# Altium footprint library SI5332AD11697-GM1.PcbLib: 3 footprints
Each footprint in its own frame and in the unit in brackets; x right, y up, seen from the top. Pads: shape width x height; smd on the part's side, far side on the other; paste and mask are expansions set on the pad; w line width, h text height; cw(c..) or ccw(c..) is an arc to the next point about the centre after c.
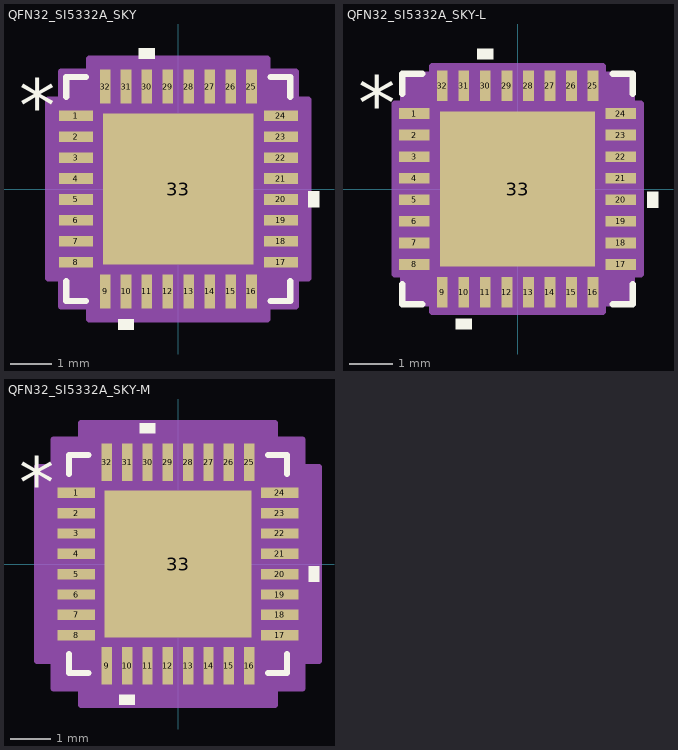
[diagram p0: the footprints below, top view; thin cyan lines are the x and y axes]

## QFN32_SI5332A_SKY [mil]
pads (33):
  rect 32x10 smd paste+0 mask+0: 1(-96.5,68.92) 2(-96.5,49.23) 3(-96.5,29.54) 4(-96.5,9.85) 5(-96.5,-9.85) 6(-96.5,-29.54) 7(-96.5,-49.23) 8(-96.5,-68.92) 17(96.5,-68.92) 18(96.5,-49.23) 19(96.5,-29.54) 20(96.5,-9.85) 21(96.5,9.85) 22(96.5,29.54) 23(96.5,49.23) 24(96.5,68.92)
  rect 10x32 smd paste+0 mask+0: 9(-68.92,-96.5) 10(-49.23,-96.5) 11(-29.54,-96.5) 12(-9.85,-96.5) 13(9.85,-96.5) 14(29.54,-96.5) 15(49.23,-96.5) 16(68.92,-96.5) 25(68.92,96.5) 26(49.23,96.5) 27(29.54,96.5) 28(9.85,96.5) 29(-9.85,96.5) 30(-29.54,96.5) 31(-49.23,96.5) 32(-68.92,96.5)
  rect 142x142 smd paste-70.5 mask+0: 33(0,0)
Top Overlay:
  region: -41.73,-122.5 -56.73,-122.5 -56.73,-132.5 -41.73,-132.5
  region: 122.5,-2.35 132.5,-2.35 132.5,-17.34 122.5,-17.34
  region: -22.04,122.5 -37.03,122.5 -37.03,132.5 -22.04,132.5
  lines w6: -105.5,-87.02 -105.5,-105.5 -87.02,-105.5 ; -105.5,87.02 -105.5,105.5 -87.02,105.5 ; 87.02,-105.5 105.5,-105.5 105.5,-87.02 ; 87.02,105.5 105.5,105.5 105.5,87.02
  text "*" at -150,53.76 h50
Top Paste:
  region: -3.94,67.06 -67.06,67.06 -67.06,3.94 -3.94,3.94
  region: -3.94,-3.94 -67.06,-3.94 -67.06,-67.06 -3.94,-67.06
  region: 67.06,67.06 3.94,67.06 3.94,3.94 67.06,3.94
  region: 67.06,-3.94 3.94,-3.94 3.94,-67.06 67.06,-67.06
Mechanical 13:
  lines w1: -100.5,50.5 -50.5,100.5 ; -100.5,-100.5 100.5,-100.5 ; -100.5,-100.5 -100.5,100.5 ; -100.5,-100.5 -100.5,-100.5 ; -100.5,-74.92 -100.5,-62.91 ; -100.5,-74.92 -100.5,-62.91 ; -100.5,-74.92 -100.5,-74.92 ; -100.5,-62.91 -100.5,-62.91 ; -100.5,-55.23 -100.5,-43.23 ; -100.5,-55.23 -100.5,-43.23 ; -100.5,-55.23 -100.5,-55.23 ; -100.5,-43.23 -100.5,-43.23 ; -100.5,-35.53 -100.5,-23.54 ; -100.5,-35.53 -100.5,-23.54 ; -100.5,-35.53 -100.5,-35.53 ; -100.5,-23.54 -100.5,-23.54 ; -100.5,-15.85 -100.5,-3.85 ; -100.5,-15.85 -100.5,-3.85 ; -100.5,-15.85 -100.5,-15.85 ; -100.5,-3.85 -100.5,-3.85 ; -100.5,3.85 -100.5,15.85 ; -100.5,3.85 -100.5,15.85 ; -100.5,3.85 -100.5,3.85 ; -100.5,15.85 -100.5,15.85 ; -100.5,23.54 -100.5,35.53 ; -100.5,23.54 -100.5,35.53 ; -100.5,23.54 -100.5,23.54 ; -100.5,35.53 -100.5,35.53 ; -100.5,43.23 -100.5,55.23 ; -100.5,43.23 -100.5,55.23 ; -100.5,43.23 -100.5,43.23 ; -100.5,55.23 -100.5,55.23 ; -100.5,62.91 -100.5,74.92 ; -100.5,62.91 -100.5,74.92 ; -100.5,62.91 -100.5,62.91 ; -100.5,74.92 -100.5,74.92 ; -100.5,100.5 100.5,100.5 ; -100.5,100.5 -100.5,100.5 ; -74.92,-100.5 -62.91,-100.5 ; -74.92,-100.5 -74.92,-100.5 ; -74.92,-100.5 -62.91,-100.5 ; -74.92,100.5 -62.91,100.5 ; -74.92,100.5 -62.91,100.5 ; -74.92,100.5 -74.92,100.5 ; -62.91,-100.5 -62.91,-100.5 ; -62.91,100.5 -62.91,100.5 ; -55.23,-100.5 -43.23,-100.5 ; -55.23,-100.5 -55.23,-100.5 ; -55.23,-100.5 -43.23,-100.5 ; -55.23,100.5 -43.23,100.5 ; -55.23,100.5 -43.23,100.5 ; -55.23,100.5 -55.23,100.5 ; -43.23,-100.5 -43.23,-100.5 ; -43.23,100.5 -43.23,100.5 ; -35.53,-100.5 -23.54,-100.5 ; -35.53,-100.5 -35.53,-100.5 ; -35.53,-100.5 -23.54,-100.5 ; -35.53,100.5 -23.54,100.5 ; -35.53,100.5 -23.54,100.5 ; -35.53,100.5 -35.53,100.5 ; -23.54,-100.5 -23.54,-100.5 ; -23.54,100.5 -23.54,100.5 ; -15.85,-100.5 -3.85,-100.5 ; -15.85,-100.5 -15.85,-100.5 ; -15.85,-100.5 -3.85,-100.5 ; -15.85,100.5 -3.85,100.5 ; -15.85,100.5 -3.85,100.5 ; -15.85,100.5 -15.85,100.5 ; -3.85,-100.5 -3.85,-100.5 ; -3.85,100.5 -3.85,100.5 ; 3.85,-100.5 15.85,-100.5 ; 3.85,-100.5 3.85,-100.5 ; 3.85,-100.5 15.85,-100.5 ; 3.85,100.5 15.85,100.5 ; 3.85,100.5 15.85,100.5 ; 3.85,100.5 3.85,100.5 ; 15.85,-100.5 15.85,-100.5 ; 15.85,100.5 15.85,100.5 ; 23.54,-100.5 35.53,-100.5 ; 23.54,-100.5 23.54,-100.5 ; 23.54,-100.5 35.53,-100.5 ; 23.54,100.5 35.53,100.5 ; 23.54,100.5 35.53,100.5 ; 23.54,100.5 23.54,100.5 ; 35.53,-100.5 35.53,-100.5 ; 35.53,100.5 35.53,100.5 ; 43.23,-100.5 55.23,-100.5 ; 43.23,-100.5 43.23,-100.5 ; 43.23,-100.5 55.23,-100.5 ; 43.23,100.5 55.23,100.5 ; 43.23,100.5 55.23,100.5 ; 43.23,100.5 43.23,100.5 ; 55.23,-100.5 55.23,-100.5 ; 55.23,100.5 55.23,100.5 ; 62.91,-100.5 74.92,-100.5 ; 62.91,-100.5 62.91,-100.5 ; 62.91,-100.5 74.92,-100.5 ; 62.91,100.5 74.92,100.5 ; 62.91,100.5 74.92,100.5 ; 62.91,100.5 62.91,100.5 ; 74.92,-100.5 74.92,-100.5 ; 74.92,100.5 74.92,100.5 ; 100.5,-100.5 100.5,-100.5 ; 100.5,-100.5 100.5,100.5 ; 100.5,-74.92 100.5,-62.91 ; 100.5,-74.92 100.5,-74.92 ; 100.5,-74.92 100.5,-62.91 ; 100.5,-62.91 100.5,-62.91 ; 100.5,-55.23 100.5,-43.23 ; 100.5,-55.23 100.5,-55.23 ; 100.5,-55.23 100.5,-43.23 ; 100.5,-43.23 100.5,-43.23 ; 100.5,-35.53 100.5,-23.54 ; 100.5,-35.53 100.5,-35.53 ; 100.5,-35.53 100.5,-23.54 ; 100.5,-23.54 100.5,-23.54 ; 100.5,-15.85 100.5,-3.85 ; 100.5,-15.85 100.5,-15.85 ; 100.5,-15.85 100.5,-3.85 ; 100.5,-3.85 100.5,-3.85 ; 100.5,3.85 100.5,15.85 ; 100.5,3.85 100.5,3.85 ; 100.5,3.85 100.5,15.85 ; 100.5,15.85 100.5,15.85 ; 100.5,23.54 100.5,35.53 ; 100.5,23.54 100.5,23.54 ; 100.5,23.54 100.5,35.53 ; 100.5,35.53 100.5,35.53 ; 100.5,43.23 100.5,55.23 ; 100.5,43.23 100.5,43.23 ; 100.5,43.23 100.5,55.23 ; 100.5,55.23 100.5,55.23 ; 100.5,62.91 100.5,74.92 ; 100.5,62.91 100.5,62.91 ; 100.5,62.91 100.5,74.92 ; 100.5,74.92 100.5,74.92 ; 100.5,100.5 100.5,100.5
  text "*" at -93,53.76 h50
Mechanical 15:
  region: -83.92,-110.5 -110.5,-110.5 -110.5,-83.92 -122.5,-83.92 -122.5,83.92 -110.5,83.92 -110.5,110.5 -83.92,110.5 -83.92,122.5 83.92,122.5 83.92,110.5 110.5,110.5 110.5,83.92 122.5,83.92 122.5,-83.92 110.5,-83.92 110.5,-110.5 83.92,-110.5 83.92,-122.5 -83.92,-122.5
  lines w6: -122.5,-83.92 -110.5,-83.92 -110.5,-110.5 -83.92,-110.5 -83.92,-122.5 83.92,-122.5 83.92,-110.5 110.5,-110.5 110.5,-83.92 122.5,-83.92 122.5,83.92 110.5,83.92 110.5,110.5 83.92,110.5 83.92,122.5 -83.92,122.5 -83.92,110.5 -110.5,110.5 -110.5,83.92 -122.5,83.92 -122.5,-83.92
3D body "QFN32_SI5332A_SKY.step": height 37.09, standoff 0, extent -100.51,-100.51 100.51,100.51

## QFN32_SI5332A_SKY-L [mil]
pads (33):
  rect 28x10 smd paste+0 mask+0: 1(-94.5,68.92) 2(-94.5,49.23) 3(-94.5,29.54) 4(-94.5,9.85) 5(-94.5,-9.85) 6(-94.5,-29.54) 7(-94.5,-49.23) 8(-94.5,-68.92) 17(94.5,-68.92) 18(94.5,-49.23) 19(94.5,-29.54) 20(94.5,-9.85) 21(94.5,9.85) 22(94.5,29.54) 23(94.5,49.23) 24(94.5,68.92)
  rect 10x28 smd paste+0 mask+0: 9(-68.92,-94.5) 10(-49.23,-94.5) 11(-29.54,-94.5) 12(-9.85,-94.5) 13(9.85,-94.5) 14(29.54,-94.5) 15(49.23,-94.5) 16(68.92,-94.5) 25(68.92,94.5) 26(49.23,94.5) 27(29.54,94.5) 28(9.85,94.5) 29(-9.85,94.5) 30(-29.54,94.5) 31(-49.23,94.5) 32(-68.92,94.5)
  rect 142x142 smd paste-70.5 mask+0: 33(0,0)
Top Overlay:
  region: -41.73,-118.5 -56.73,-118.5 -56.73,-128.5 -41.73,-128.5
  region: 118.5,-2.35 128.5,-2.35 128.5,-17.34 118.5,-17.34
  region: -22.04,118.5 -37.03,118.5 -37.03,128.5 -22.04,128.5
  lines w6: -105.5,-87.02 -105.5,-105.5 -87.02,-105.5 ; -105.5,87.02 -105.5,105.5 -87.02,105.5 ; 87.02,-105.5 105.5,-105.5 105.5,-87.02 ; 87.02,105.5 105.5,105.5 105.5,87.02
  text "*" at -146,53.76 h50
Top Paste:
  region: -3.94,67.06 -67.06,67.06 -67.06,3.94 -3.94,3.94
  region: -3.94,-3.94 -67.06,-3.94 -67.06,-67.06 -3.94,-67.06
  region: 67.06,67.06 3.94,67.06 3.94,3.94 67.06,3.94
  region: 67.06,-3.94 3.94,-3.94 3.94,-67.06 67.06,-67.06
Mechanical 13:
  lines w1: -100.5,50.5 -50.5,100.5 ; -100.5,-100.5 100.5,-100.5 ; -100.5,-100.5 -100.5,100.5 ; -100.5,-100.5 -100.5,-100.5 ; -100.5,-74.92 -100.5,-62.91 ; -100.5,-74.92 -100.5,-62.91 ; -100.5,-74.92 -100.5,-74.92 ; -100.5,-62.91 -100.5,-62.91 ; -100.5,-55.23 -100.5,-43.23 ; -100.5,-55.23 -100.5,-43.23 ; -100.5,-55.23 -100.5,-55.23 ; -100.5,-43.23 -100.5,-43.23 ; -100.5,-35.53 -100.5,-23.54 ; -100.5,-35.53 -100.5,-23.54 ; -100.5,-35.53 -100.5,-35.53 ; -100.5,-23.54 -100.5,-23.54 ; -100.5,-15.85 -100.5,-3.85 ; -100.5,-15.85 -100.5,-3.85 ; -100.5,-15.85 -100.5,-15.85 ; -100.5,-3.85 -100.5,-3.85 ; -100.5,3.85 -100.5,15.85 ; -100.5,3.85 -100.5,15.85 ; -100.5,3.85 -100.5,3.85 ; -100.5,15.85 -100.5,15.85 ; -100.5,23.54 -100.5,35.53 ; -100.5,23.54 -100.5,35.53 ; -100.5,23.54 -100.5,23.54 ; -100.5,35.53 -100.5,35.53 ; -100.5,43.23 -100.5,55.23 ; -100.5,43.23 -100.5,55.23 ; -100.5,43.23 -100.5,43.23 ; -100.5,55.23 -100.5,55.23 ; -100.5,62.91 -100.5,74.92 ; -100.5,62.91 -100.5,74.92 ; -100.5,62.91 -100.5,62.91 ; -100.5,74.92 -100.5,74.92 ; -100.5,100.5 100.5,100.5 ; -100.5,100.5 -100.5,100.5 ; -74.92,-100.5 -62.91,-100.5 ; -74.92,-100.5 -74.92,-100.5 ; -74.92,-100.5 -62.91,-100.5 ; -74.92,100.5 -62.91,100.5 ; -74.92,100.5 -62.91,100.5 ; -74.92,100.5 -74.92,100.5 ; -62.91,-100.5 -62.91,-100.5 ; -62.91,100.5 -62.91,100.5 ; -55.23,-100.5 -43.23,-100.5 ; -55.23,-100.5 -55.23,-100.5 ; -55.23,-100.5 -43.23,-100.5 ; -55.23,100.5 -43.23,100.5 ; -55.23,100.5 -43.23,100.5 ; -55.23,100.5 -55.23,100.5 ; -43.23,-100.5 -43.23,-100.5 ; -43.23,100.5 -43.23,100.5 ; -35.53,-100.5 -23.54,-100.5 ; -35.53,-100.5 -35.53,-100.5 ; -35.53,-100.5 -23.54,-100.5 ; -35.53,100.5 -23.54,100.5 ; -35.53,100.5 -23.54,100.5 ; -35.53,100.5 -35.53,100.5 ; -23.54,-100.5 -23.54,-100.5 ; -23.54,100.5 -23.54,100.5 ; -15.85,-100.5 -3.85,-100.5 ; -15.85,-100.5 -15.85,-100.5 ; -15.85,-100.5 -3.85,-100.5 ; -15.85,100.5 -3.85,100.5 ; -15.85,100.5 -3.85,100.5 ; -15.85,100.5 -15.85,100.5 ; -3.85,-100.5 -3.85,-100.5 ; -3.85,100.5 -3.85,100.5 ; 3.85,-100.5 15.85,-100.5 ; 3.85,-100.5 3.85,-100.5 ; 3.85,-100.5 15.85,-100.5 ; 3.85,100.5 15.85,100.5 ; 3.85,100.5 15.85,100.5 ; 3.85,100.5 3.85,100.5 ; 15.85,-100.5 15.85,-100.5 ; 15.85,100.5 15.85,100.5 ; 23.54,-100.5 35.53,-100.5 ; 23.54,-100.5 23.54,-100.5 ; 23.54,-100.5 35.53,-100.5 ; 23.54,100.5 35.53,100.5 ; 23.54,100.5 35.53,100.5 ; 23.54,100.5 23.54,100.5 ; 35.53,-100.5 35.53,-100.5 ; 35.53,100.5 35.53,100.5 ; 43.23,-100.5 55.23,-100.5 ; 43.23,-100.5 43.23,-100.5 ; 43.23,-100.5 55.23,-100.5 ; 43.23,100.5 55.23,100.5 ; 43.23,100.5 55.23,100.5 ; 43.23,100.5 43.23,100.5 ; 55.23,-100.5 55.23,-100.5 ; 55.23,100.5 55.23,100.5 ; 62.91,-100.5 74.92,-100.5 ; 62.91,-100.5 62.91,-100.5 ; 62.91,-100.5 74.92,-100.5 ; 62.91,100.5 74.92,100.5 ; 62.91,100.5 74.92,100.5 ; 62.91,100.5 62.91,100.5 ; 74.92,-100.5 74.92,-100.5 ; 74.92,100.5 74.92,100.5 ; 100.5,-100.5 100.5,-100.5 ; 100.5,-100.5 100.5,100.5 ; 100.5,-74.92 100.5,-62.91 ; 100.5,-74.92 100.5,-74.92 ; 100.5,-74.92 100.5,-62.91 ; 100.5,-62.91 100.5,-62.91 ; 100.5,-55.23 100.5,-43.23 ; 100.5,-55.23 100.5,-55.23 ; 100.5,-55.23 100.5,-43.23 ; 100.5,-43.23 100.5,-43.23 ; 100.5,-35.53 100.5,-23.54 ; 100.5,-35.53 100.5,-35.53 ; 100.5,-35.53 100.5,-23.54 ; 100.5,-23.54 100.5,-23.54 ; 100.5,-15.85 100.5,-3.85 ; 100.5,-15.85 100.5,-15.85 ; 100.5,-15.85 100.5,-3.85 ; 100.5,-3.85 100.5,-3.85 ; 100.5,3.85 100.5,15.85 ; 100.5,3.85 100.5,3.85 ; 100.5,3.85 100.5,15.85 ; 100.5,15.85 100.5,15.85 ; 100.5,23.54 100.5,35.53 ; 100.5,23.54 100.5,23.54 ; 100.5,23.54 100.5,35.53 ; 100.5,35.53 100.5,35.53 ; 100.5,43.23 100.5,55.23 ; 100.5,43.23 100.5,43.23 ; 100.5,43.23 100.5,55.23 ; 100.5,55.23 100.5,55.23 ; 100.5,62.91 100.5,74.92 ; 100.5,62.91 100.5,62.91 ; 100.5,62.91 100.5,74.92 ; 100.5,74.92 100.5,74.92 ; 100.5,100.5 100.5,100.5
  text "*" at -93,53.76 h50
Mechanical 15:
  region: -77.92,-104.5 -104.5,-104.5 -104.5,-77.92 -112.5,-77.92 -112.5,77.92 -104.5,77.92 -104.5,104.5 -77.92,104.5 -77.92,112.5 77.92,112.5 77.92,104.5 104.5,104.5 104.5,77.92 112.5,77.92 112.5,-77.92 104.5,-77.92 104.5,-104.5 77.92,-104.5 77.92,-112.5 -77.92,-112.5
  lines w6: -112.5,-77.92 -104.5,-77.92 -104.5,-104.5 -77.92,-104.5 -77.92,-112.5 77.92,-112.5 77.92,-104.5 104.5,-104.5 104.5,-77.92 112.5,-77.92 112.5,77.92 104.5,77.92 104.5,104.5 77.92,104.5 77.92,112.5 -77.92,112.5 -77.92,104.5 -104.5,104.5 -104.5,77.92 -112.5,77.92 -112.5,-77.92
3D body "QFN32_SI5332A_SKY.step": height 37.09, standoff 0, extent -100.51,-100.51 100.51,100.51

## QFN32_SI5332A_SKY-M [mil]
pads (33):
  rect 36x10 smd paste+0 mask+0: 1(-98.5,68.92) 2(-98.5,49.23) 3(-98.5,29.54) 4(-98.5,9.85) 5(-98.5,-9.85) 6(-98.5,-29.54) 7(-98.5,-49.23) 8(-98.5,-68.92) 17(98.5,-68.92) 18(98.5,-49.23) 19(98.5,-29.54) 20(98.5,-9.85) 21(98.5,9.85) 22(98.5,29.54) 23(98.5,49.23) 24(98.5,68.92)
  rect 10x36 smd paste+0 mask+0: 9(-68.92,-98.5) 10(-49.23,-98.5) 11(-29.54,-98.5) 12(-9.85,-98.5) 13(9.85,-98.5) 14(29.54,-98.5) 15(49.23,-98.5) 16(68.92,-98.5) 25(68.92,98.5) 26(49.23,98.5) 27(29.54,98.5) 28(9.85,98.5) 29(-9.85,98.5) 30(-29.54,98.5) 31(-49.23,98.5) 32(-68.92,98.5)
  rect 142x142 smd paste-70.5 mask+0: 33(0,0)
Top Overlay:
  region: -41.73,-126.5 -56.73,-126.5 -56.73,-136.5 -41.73,-136.5
  region: 126.5,-2.35 136.5,-2.35 136.5,-17.34 126.5,-17.34
  region: -22.04,126.5 -37.03,126.5 -37.03,136.5 -22.04,136.5
  lines w6: -105.5,-87.02 -105.5,-105.5 -87.02,-105.5 ; -105.5,87.02 -105.5,105.5 -87.02,105.5 ; 87.02,-105.5 105.5,-105.5 105.5,-87.02 ; 87.02,105.5 105.5,105.5 105.5,87.02
  text "*" at -154,53.76 h50
Top Paste:
  region: -3.94,67.06 -67.06,67.06 -67.06,3.94 -3.94,3.94
  region: -3.94,-3.94 -67.06,-3.94 -67.06,-67.06 -3.94,-67.06
  region: 67.06,67.06 3.94,67.06 3.94,3.94 67.06,3.94
  region: 67.06,-3.94 3.94,-3.94 3.94,-67.06 67.06,-67.06
Mechanical 13:
  lines w1: -100.5,50.5 -50.5,100.5 ; -100.5,-100.5 100.5,-100.5 ; -100.5,-100.5 -100.5,100.5 ; -100.5,-100.5 -100.5,-100.5 ; -100.5,-74.92 -100.5,-62.91 ; -100.5,-74.92 -100.5,-62.91 ; -100.5,-74.92 -100.5,-74.92 ; -100.5,-62.91 -100.5,-62.91 ; -100.5,-55.23 -100.5,-43.23 ; -100.5,-55.23 -100.5,-43.23 ; -100.5,-55.23 -100.5,-55.23 ; -100.5,-43.23 -100.5,-43.23 ; -100.5,-35.53 -100.5,-23.54 ; -100.5,-35.53 -100.5,-23.54 ; -100.5,-35.53 -100.5,-35.53 ; -100.5,-23.54 -100.5,-23.54 ; -100.5,-15.85 -100.5,-3.85 ; -100.5,-15.85 -100.5,-3.85 ; -100.5,-15.85 -100.5,-15.85 ; -100.5,-3.85 -100.5,-3.85 ; -100.5,3.85 -100.5,15.85 ; -100.5,3.85 -100.5,15.85 ; -100.5,3.85 -100.5,3.85 ; -100.5,15.85 -100.5,15.85 ; -100.5,23.54 -100.5,35.53 ; -100.5,23.54 -100.5,35.53 ; -100.5,23.54 -100.5,23.54 ; -100.5,35.53 -100.5,35.53 ; -100.5,43.23 -100.5,55.23 ; -100.5,43.23 -100.5,55.23 ; -100.5,43.23 -100.5,43.23 ; -100.5,55.23 -100.5,55.23 ; -100.5,62.91 -100.5,74.92 ; -100.5,62.91 -100.5,74.92 ; -100.5,62.91 -100.5,62.91 ; -100.5,74.92 -100.5,74.92 ; -100.5,100.5 100.5,100.5 ; -100.5,100.5 -100.5,100.5 ; -74.92,-100.5 -62.91,-100.5 ; -74.92,-100.5 -74.92,-100.5 ; -74.92,-100.5 -62.91,-100.5 ; -74.92,100.5 -62.91,100.5 ; -74.92,100.5 -62.91,100.5 ; -74.92,100.5 -74.92,100.5 ; -62.91,-100.5 -62.91,-100.5 ; -62.91,100.5 -62.91,100.5 ; -55.23,-100.5 -43.23,-100.5 ; -55.23,-100.5 -55.23,-100.5 ; -55.23,-100.5 -43.23,-100.5 ; -55.23,100.5 -43.23,100.5 ; -55.23,100.5 -43.23,100.5 ; -55.23,100.5 -55.23,100.5 ; -43.23,-100.5 -43.23,-100.5 ; -43.23,100.5 -43.23,100.5 ; -35.53,-100.5 -23.54,-100.5 ; -35.53,-100.5 -35.53,-100.5 ; -35.53,-100.5 -23.54,-100.5 ; -35.53,100.5 -23.54,100.5 ; -35.53,100.5 -23.54,100.5 ; -35.53,100.5 -35.53,100.5 ; -23.54,-100.5 -23.54,-100.5 ; -23.54,100.5 -23.54,100.5 ; -15.85,-100.5 -3.85,-100.5 ; -15.85,-100.5 -15.85,-100.5 ; -15.85,-100.5 -3.85,-100.5 ; -15.85,100.5 -3.85,100.5 ; -15.85,100.5 -3.85,100.5 ; -15.85,100.5 -15.85,100.5 ; -3.85,-100.5 -3.85,-100.5 ; -3.85,100.5 -3.85,100.5 ; 3.85,-100.5 15.85,-100.5 ; 3.85,-100.5 3.85,-100.5 ; 3.85,-100.5 15.85,-100.5 ; 3.85,100.5 15.85,100.5 ; 3.85,100.5 15.85,100.5 ; 3.85,100.5 3.85,100.5 ; 15.85,-100.5 15.85,-100.5 ; 15.85,100.5 15.85,100.5 ; 23.54,-100.5 35.53,-100.5 ; 23.54,-100.5 23.54,-100.5 ; 23.54,-100.5 35.53,-100.5 ; 23.54,100.5 35.53,100.5 ; 23.54,100.5 35.53,100.5 ; 23.54,100.5 23.54,100.5 ; 35.53,-100.5 35.53,-100.5 ; 35.53,100.5 35.53,100.5 ; 43.23,-100.5 55.23,-100.5 ; 43.23,-100.5 43.23,-100.5 ; 43.23,-100.5 55.23,-100.5 ; 43.23,100.5 55.23,100.5 ; 43.23,100.5 55.23,100.5 ; 43.23,100.5 43.23,100.5 ; 55.23,-100.5 55.23,-100.5 ; 55.23,100.5 55.23,100.5 ; 62.91,-100.5 74.92,-100.5 ; 62.91,-100.5 62.91,-100.5 ; 62.91,-100.5 74.92,-100.5 ; 62.91,100.5 74.92,100.5 ; 62.91,100.5 74.92,100.5 ; 62.91,100.5 62.91,100.5 ; 74.92,-100.5 74.92,-100.5 ; 74.92,100.5 74.92,100.5 ; 100.5,-100.5 100.5,-100.5 ; 100.5,-100.5 100.5,100.5 ; 100.5,-74.92 100.5,-62.91 ; 100.5,-74.92 100.5,-74.92 ; 100.5,-74.92 100.5,-62.91 ; 100.5,-62.91 100.5,-62.91 ; 100.5,-55.23 100.5,-43.23 ; 100.5,-55.23 100.5,-55.23 ; 100.5,-55.23 100.5,-43.23 ; 100.5,-43.23 100.5,-43.23 ; 100.5,-35.53 100.5,-23.54 ; 100.5,-35.53 100.5,-35.53 ; 100.5,-35.53 100.5,-23.54 ; 100.5,-23.54 100.5,-23.54 ; 100.5,-15.85 100.5,-3.85 ; 100.5,-15.85 100.5,-15.85 ; 100.5,-15.85 100.5,-3.85 ; 100.5,-3.85 100.5,-3.85 ; 100.5,3.85 100.5,15.85 ; 100.5,3.85 100.5,3.85 ; 100.5,3.85 100.5,15.85 ; 100.5,15.85 100.5,15.85 ; 100.5,23.54 100.5,35.53 ; 100.5,23.54 100.5,23.54 ; 100.5,23.54 100.5,35.53 ; 100.5,35.53 100.5,35.53 ; 100.5,43.23 100.5,55.23 ; 100.5,43.23 100.5,43.23 ; 100.5,43.23 100.5,55.23 ; 100.5,55.23 100.5,55.23 ; 100.5,62.91 100.5,74.92 ; 100.5,62.91 100.5,62.91 ; 100.5,62.91 100.5,74.92 ; 100.5,74.92 100.5,74.92 ; 100.5,100.5 100.5,100.5
  text "*" at -93,53.76 h50
Mechanical 15:
  region: -93.92,-120.5 -120.5,-120.5 -120.5,-93.92 -136.5,-93.92 -136.5,93.92 -120.5,93.92 -120.5,120.5 -93.92,120.5 -93.92,136.5 93.92,136.5 93.92,120.5 120.5,120.5 120.5,93.92 136.5,93.92 136.5,-93.92 120.5,-93.92 120.5,-120.5 93.92,-120.5 93.92,-136.5 -93.92,-136.5
  lines w6: -136.5,-93.92 -120.5,-93.92 -120.5,-120.5 -93.92,-120.5 -93.92,-136.5 93.92,-136.5 93.92,-120.5 120.5,-120.5 120.5,-93.92 136.5,-93.92 136.5,93.92 120.5,93.92 120.5,120.5 93.92,120.5 93.92,136.5 -93.92,136.5 -93.92,120.5 -120.5,120.5 -120.5,93.92 -136.5,93.92 -136.5,-93.92
3D body "QFN32_SI5332A_SKY.step": height 37.09, standoff 0, extent -100.51,-100.51 100.51,100.51